# EAGLE library part MIC5014 (library NASA_LIB)
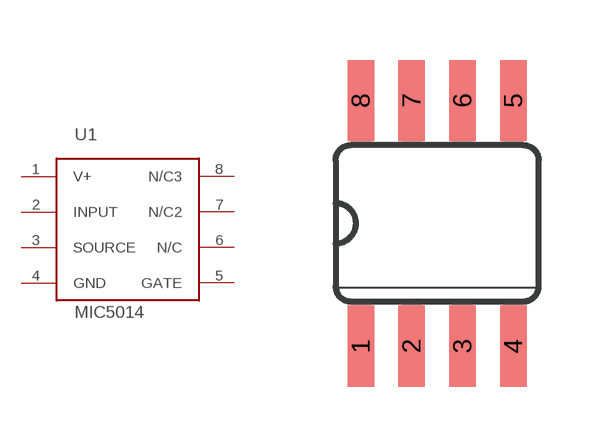
[diagram p5: symbol with the pads of SO08; footprint SO08]

Designator prefix U1

## MIC5014  [SO08]
1  V+
2  INPUT
3  SOURCE
4  GND
5  GATE
6  N/C
7  N/C2
8  N/C3

## Footprint SO08 (pad centres in mm)
smd 0.66 x 2.032: 1 -1.905,-3.073; 2 -0.635,-3.073; 3 0.635,-3.073; 4 1.905,-3.073; 5 1.905,3.073; 6 0.635,3.073; 7 -0.635,3.073; 8 -1.905,3.073